# Altium schematic symbol library Microcontrollers.SchLib: 8 symbols
Pins are listed as number, name and electrical type; pins without a type are passive.

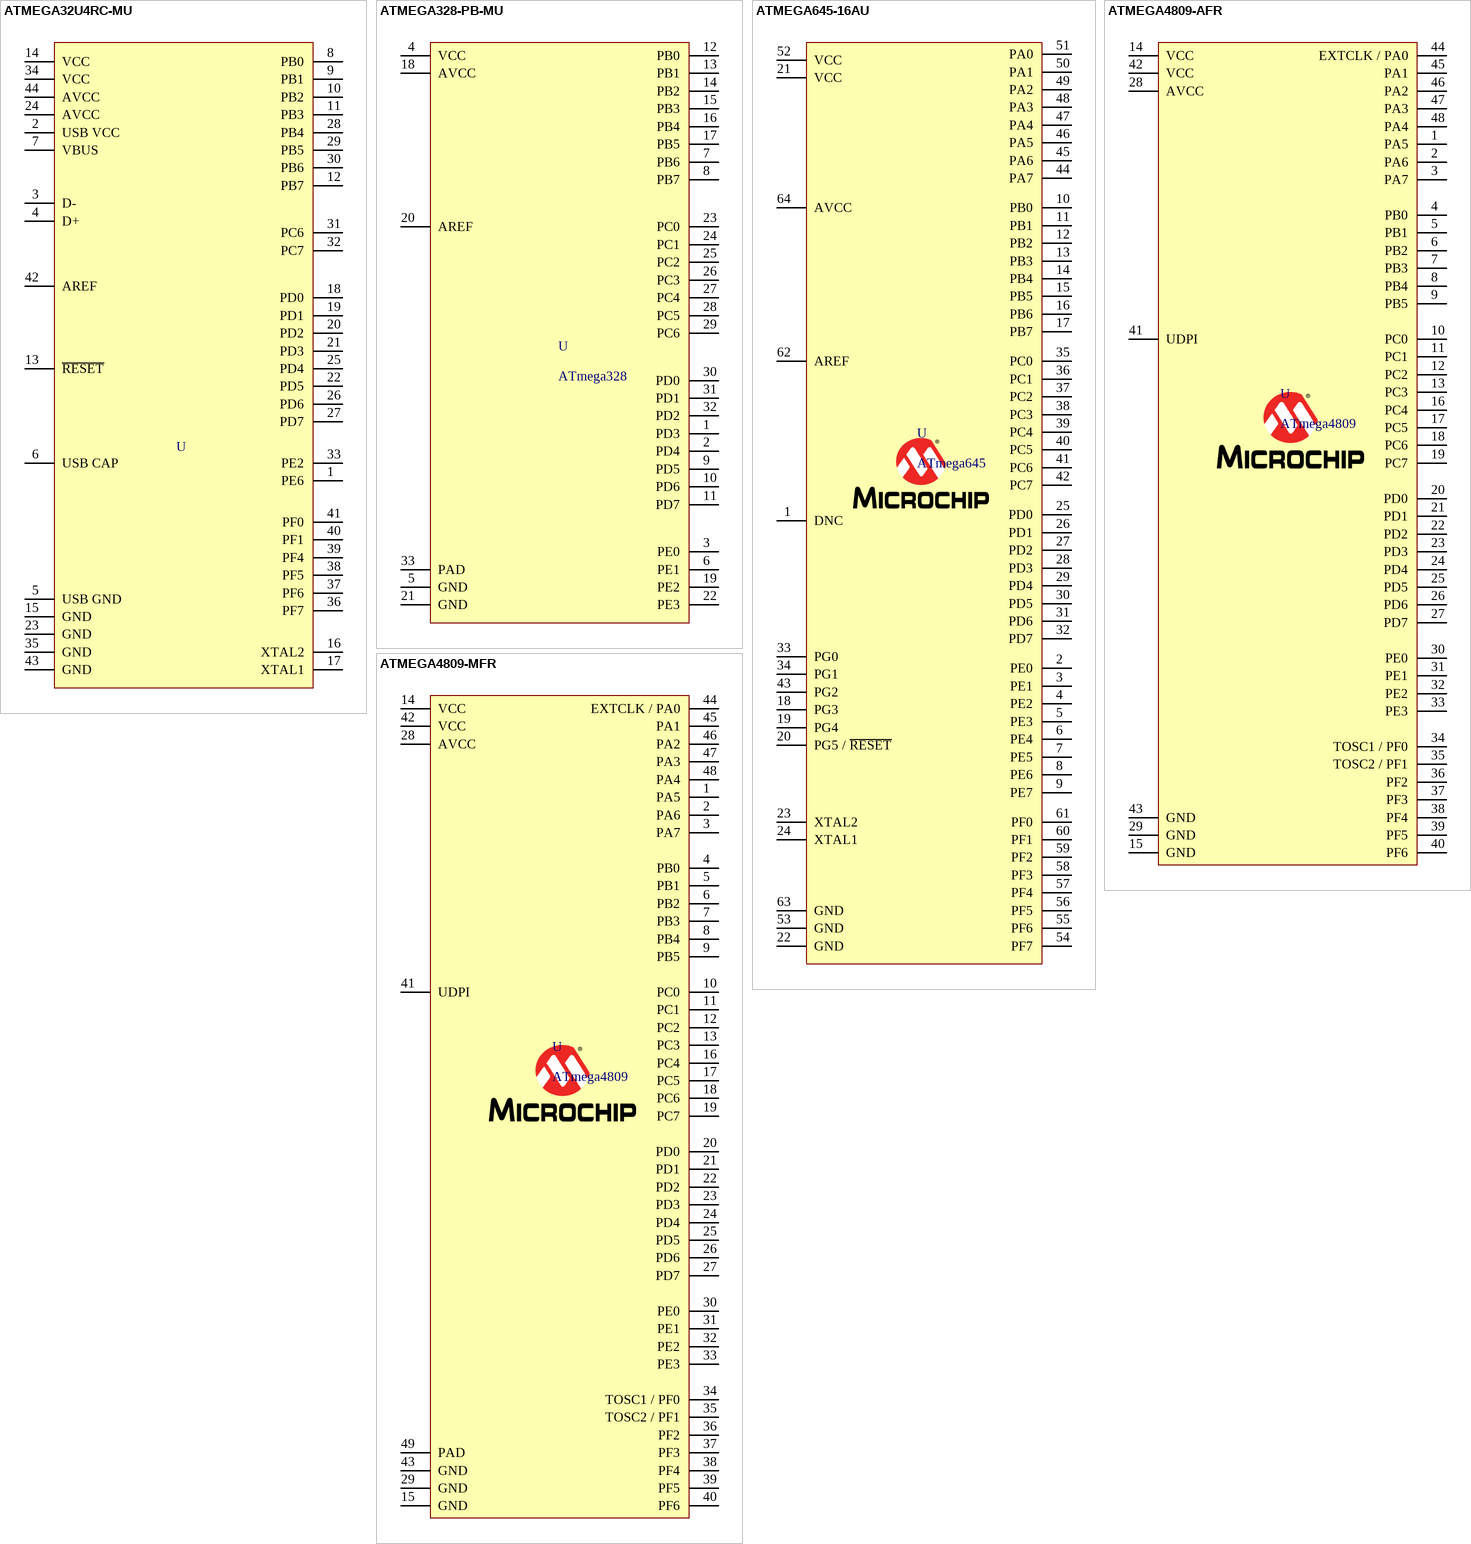
[diagram p0: symbols ATMEGA32U4RC-MU to ATMEGA4809-MFR]

## ATMEGA32U4RC-MU
designator U
ATmega32u4
footprint ATMEGA32U4RC-MU (QFN, 44-Leads, Body 7.00x7.00mm, Pitch 0.50mm, Thermal Pad 5.20x5.20mm, IPC Medium Density)
pins: 1 PE6, 2 USB VCC, 3 D-, 4 D+, 5 USB GND, 6 USB CAP, 7 VBUS, 8 PB0, 9 PB1, 10 PB2, 11 PB3, 12 PB7, 13 ~{RESET}, 14 VCC, 15 GND, 16 XTAL2, 17 XTAL1, 18 PD0, 19 PD1, 20 PD2, 21 PD3, 22 PD5, 23 GND, 24 AVCC, 25 PD4, 26 PD6, 27 PD7, 28 PB4, 29 PB5, 30 PB6, 31 PC6, 32 PC7, 33 PE2, 34 VCC, 35 GND, 36 PF7, 37 PF6, 38 PF5, 39 PF4, 40 PF1, 41 PF0, 42 AREF, 43 GND, 44 AVCC

## ATMEGA328-PB-MU
designator U, comment ATmega328
ATmega328, 2 UART
footprint ATMEGA328-PB-AU (QFN, 32-Leads, Body 5.00x5.00mm, Pitch 0.50mm, Thermal Pad 3.10x3.10mm, IPC Medium Density)
pins: 1 PD3, 2 PD4, 3 PE0, 4 VCC, 5 GND, 6 PE1, 7 PB6, 8 PB7, 9 PD5, 10 PD6, 11 PD7, 12 PB0, 13 PB1, 14 PB2, 15 PB3, 16 PB4, 17 PB5, 18 AVCC, 19 PE2, 20 AREF, 21 GND, 22 PE3, 23 PC0, 24 PC1, 25 PC2, 26 PC3, 27 PC4, 28 PC5, 29 PC6, 30 PD0, 31 PD1, 32 PD2, 33 PAD

## ATMEGA645-16AU
designator U, comment ATmega645
footprint ATmega645 (TQFP, 64-Leads, Body 14.00x14.00mm, Pitch 0.80mm, IPC Medium Density)
pins: 1 DNC, 2 PE0, 3 PE1, 4 PE2, 5 PE3, 6 PE4, 7 PE5, 8 PE6, 9 PE7, 10 PB0, 11 PB1, 12 PB2, 13 PB3, 14 PB4, 15 PB5, 16 PB6, 17 PB7, 18 PG3, 19 PG4, 20 PG5 / ~{RESET}, 21 VCC, 22 GND, 23 XTAL2, 24 XTAL1, 25 PD0, 26 PD1, 27 PD2, 28 PD3, 29 PD4, 30 PD5, 31 PD6, 32 PD7, 33 PG0, 34 PG1, 35 PC0, 36 PC1, 37 PC2, 38 PC3, 39 PC4, 40 PC5, 41 PC6, 42 PC7, 43 PG2, 44 PA7, 45 PA6, 46 PA5, 47 PA4, 48 PA3, 49 PA2, 50 PA1, 51 PA0, 52 VCC, 53 GND, 54 PF7, 55 PF6, 56 PF5, 57 PF4, 58 PF3, 59 PF2, 60 PF1, 61 PF0, 62 AREF, 63 GND, 64 AVCC

## ATMEGA4809-AFR
designator U, comment ATmega4809
ATmega4809 48-pin TQFP
footprint ATMEGA4809-AFR (TSQFP, 48-Leads, Body 7,00x7,00mm, Pitch 0,50mm, IPC Medium Density)
pins: 1 PA5, 2 PA6, 3 PA7, 4 PB0, 5 PB1, 6 PB2, 7 PB3, 8 PB4, 9 PB5, 10 PC0, 11 PC1, 12 PC2, 13 PC3, 14 VCC, 15 GND, 16 PC4, 17 PC5, 18 PC6, 19 PC7, 20 PD0, 21 PD1, 22 PD2, 23 PD3, 24 PD4, 25 PD5, 26 PD6, 27 PD7, 28 AVCC, 29 GND, 30 PE0, 31 PE1, 32 PE2, 33 PE3, 34 TOSC1 / PF0, 35 TOSC2 / PF1, 36 PF2, 37 PF3, 38 PF4, 39 PF5, 40 PF6, 41 UDPI, 42 VCC, 43 GND, 44 EXTCLK / PA0, 45 PA1, 46 PA2, 47 PA3, 48 PA4

## ATMEGA4809-MFR
designator U, comment ATmega4809
ATmega4809 48-pin UQFN
footprint ATMEGA4809-MFR (QFN, 48-Leads, Body 6.00x6.00mm, Pitch 0.40mm, Thermal Pad 4.60x4.60mm, IPC Medium Density)
pins: 1 PA5, 2 PA6, 3 PA7, 4 PB0, 5 PB1, 6 PB2, 7 PB3, 8 PB4, 9 PB5, 10 PC0, 11 PC1, 12 PC2, 13 PC3, 14 VCC, 15 GND, 16 PC4, 17 PC5, 18 PC6, 19 PC7, 20 PD0, 21 PD1, 22 PD2, 23 PD3, 24 PD4, 25 PD5, 26 PD6, 27 PD7, 28 AVCC, 29 GND, 30 PE0, 31 PE1, 32 PE2, 33 PE3, 34 TOSC1 / PF0, 35 TOSC2 / PF1, 36 PF2, 37 PF3, 38 PF4, 39 PF5, 40 PF6, 41 UDPI, 42 VCC, 43 GND, 44 EXTCLK / PA0, 45 PA1, 46 PA2, 47 PA3, 48 PA4, 49 PAD

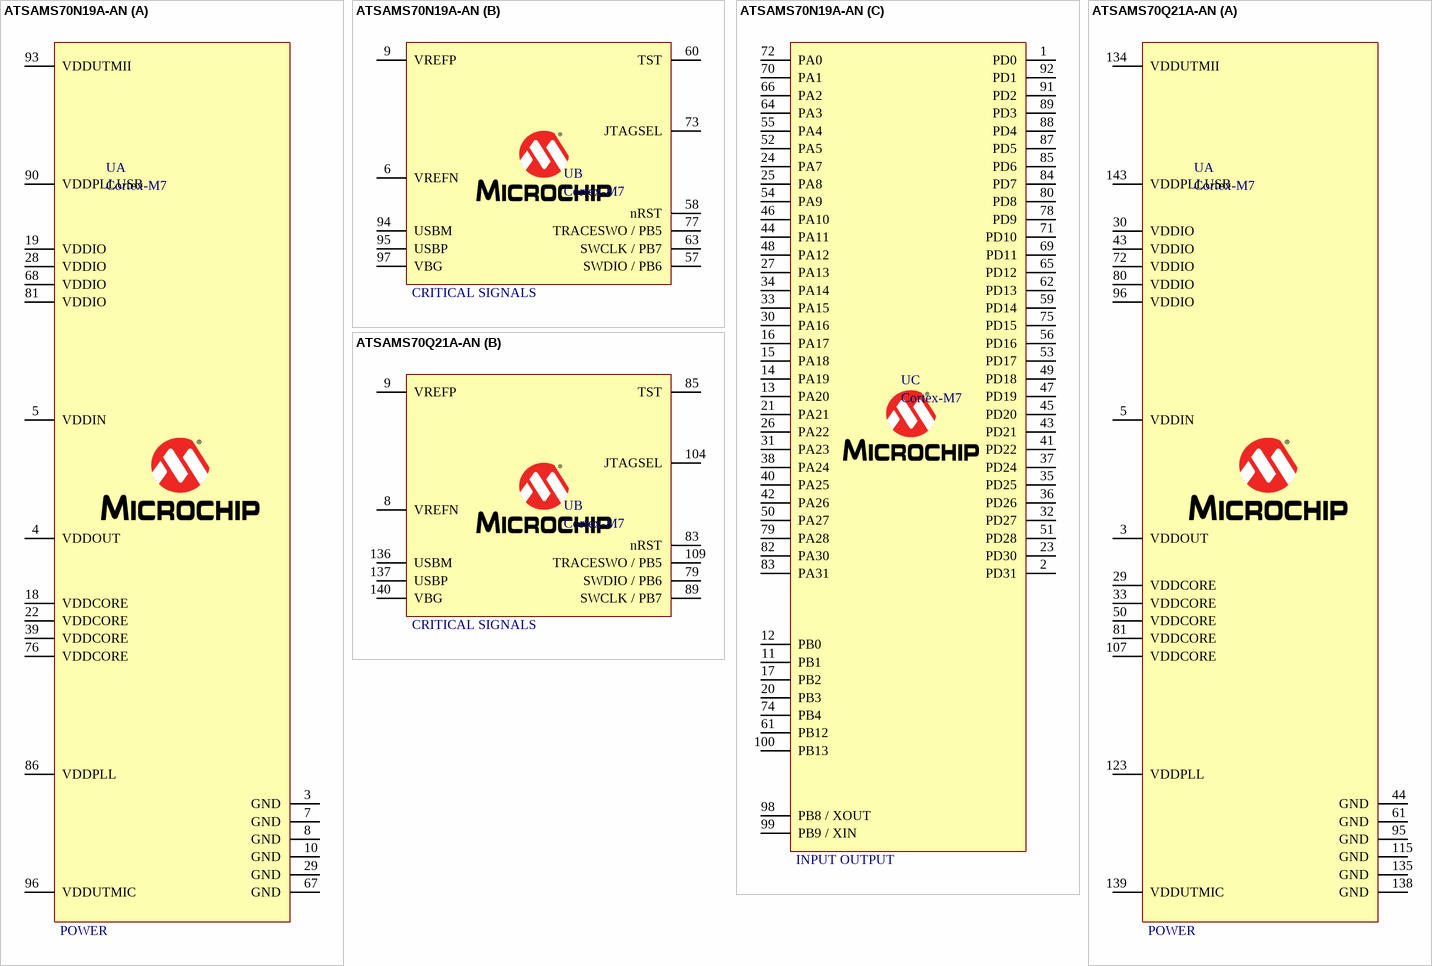
[diagram p1: symbols ATSAMS70N19A-AN to ATSAMS70Q21A-AN]

## ATSAMS70N19A-AN
designator U, comment Cortex-M7
ATSAMS70N19
footprint ATSAMS70N19A-AN (TSQFP, 100-Leads, Body 14,00x14,00mm, Pitch 0,50mm, IPC Medium Density)
part A pins: 3 GND, 4 VDDOUT, 5 VDDIN, 7 GND, 8 GND, 10 GND, 18 VDDCORE, 19 VDDIO, 22 VDDCORE, 28 VDDIO, 29 GND, 39 VDDCORE, 67 GND, 68 VDDIO, 76 VDDCORE, 81 VDDIO, 86 VDDPLL, 90 VDDPLLUSB, 93 VDDUTMII, 96 VDDUTMIC
part B pins: 6 VREFN, 9 VREFP, 57 SWDIO / PB6, 58 nRST, 60 TST, 63 SWCLK / PB7, 73 JTAGSEL, 77 TRACESWO / PB5, 94 USBM, 95 USBP, 97 VBG
part C pins: 1 PD0, 2 PD31, 11 PB1, 12 PB0, 13 PA20, 14 PA19, 15 PA18, 16 PA17, 17 PB2, 20 PB3, 21 PA21, 23 PD30, 24 PA7, 25 PA8, 26 PA22, 27 PA13, 30 PA16, 31 PA23, 32 PD27, 33 PA15, 34 PA14, 35 PD25, 36 PD26, 37 PD24, 38 PA24, 40 PA25, 41 PD22, 42 PA26, 43 PD21, 44 PA11, 45 PD20, 46 PA10, 47 PD19, 48 PA12, 49 PD18, 50 PA27, 51 PD28, 52 PA5, 53 PD17, 54 PA9, 55 PA4, 56 PD16, 59 PD14, 61 PB12, 62 PD13, 64 PA3, 65 PD12, 66 PA2, 69 PD11, 70 PA1, 71 PD10, 72 PA0, 74 PB4, 75 PD15, 78 PD9, 79 PA28, 80 PD8, 82 PA30, 83 PA31, 84 PD7, 85 PD6, 87 PD5, 88 PD4, 89 PD3, 91 PD2, 92 PD1, 98 PB8 / XOUT, 99 PB9 / XIN, 100 PB13
part A text: POWER
part B text: CRITICAL SIGNALS
part C text: INPUT OUTPUT

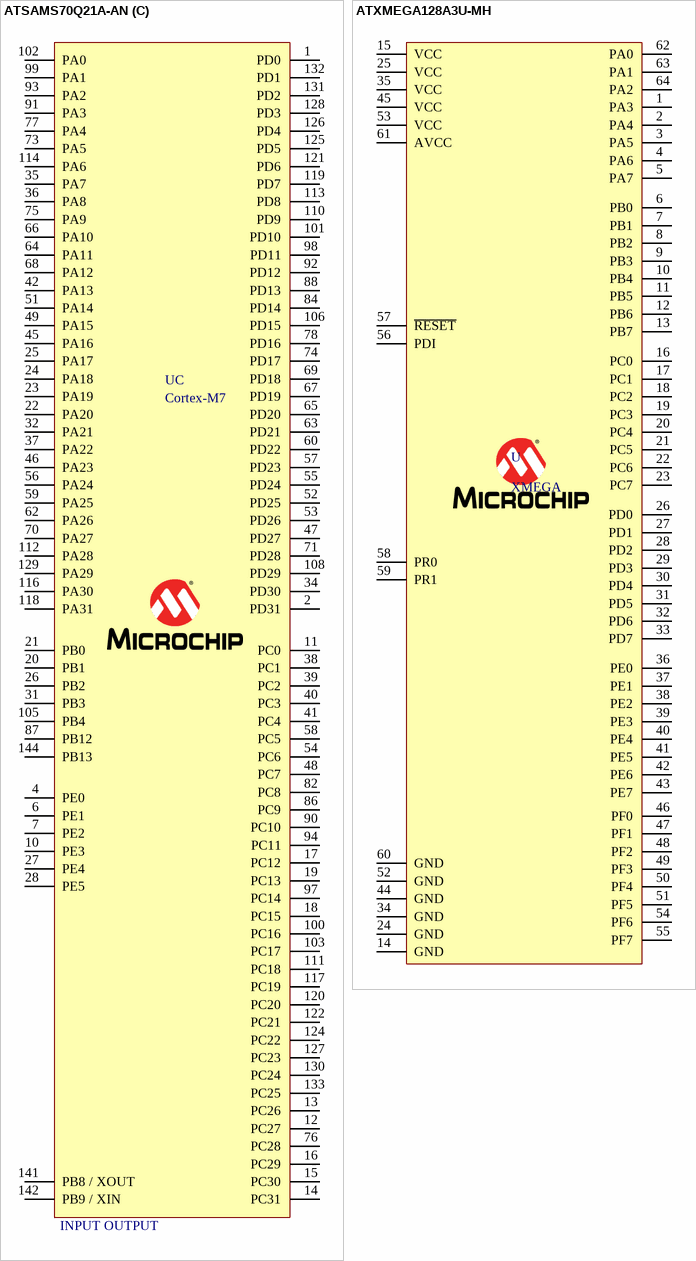
[diagram p2: symbols ATSAMS70Q21A-AN to ATXMEGA128A3U-MH]

## ATSAMS70Q21A-AN
designator U, comment Cortex-M7
ATSAMS70Q21
footprint ATSAMS70Q21A-AN (TSQFP, 144-Leads, Body 20,00x20,00mm, Pitch 0,50mm, IPC Medium Density)
part A pins: 3 VDDOUT, 5 VDDIN, 29 VDDCORE, 30 VDDIO, 33 VDDCORE, 43 VDDIO, 44 GND, 50 VDDCORE, 61 GND, 72 VDDIO, 80 VDDIO, 81 VDDCORE, 95 GND, 96 VDDIO, 107 VDDCORE, 115 GND, 123 VDDPLL, 134 VDDUTMII, 135 GND, 138 GND, 139 VDDUTMIC, 143 VDDPLLUSB
part B pins: 8 VREFN, 9 VREFP, 79 SWDIO / PB6, 83 nRST, 85 TST, 89 SWCLK / PB7, 104 JTAGSEL, 109 TRACESWO / PB5, 136 USBM, 137 USBP, 140 VBG
part C pins: 1 PD0, 2 PD31, 4 PE0, 6 PE1, 7 PE2, 10 PE3, 11 PC0, 12 PC27, 13 PC26, 14 PC31, 15 PC30, 16 PC29, 17 PC12, 18 PC15, 19 PC13, 20 PB1, 21 PB0, 22 PA20, 23 PA19, 24 PA18, 25 PA17, 26 PB2, 27 PE4, 28 PE5, 31 PB3, 32 PA21, 34 PD30, 35 PA7, 36 PA8, 37 PA22, 38 PC1, 39 PC2, 40 PC3, 41 PC4, 42 PA13, 45 PA16, 46 PA23, 47 PD27, 48 PC7, 49 PA15, 51 PA14, 52 PD25, 53 PD26, 54 PC6, 55 PD24, 56 PA24, 57 PD23, 58 PC5, 59 PA25, 60 PD22, 62 PA26, 63 PD21, 64 PA11, 65 PD20, 66 PA10, 67 PD19, 68 PA12, 69 PD18, 70 PA27, 71 PD28, 73 PA5, 74 PD17, 75 PA9, 76 PC28, 77 PA4, 78 PD16, 82 PC8, 84 PD14, 86 PC9, 87 PB12, 88 PD13, 90 PC10, 91 PA3, 92 PD12, 93 PA2, 94 PC11, 97 PC14, 98 PD11, 99 PA1, 100 PC16, 101 PD10, 102 PA0, 103 PC17, 105 PB4, 106 PD15, 108 PD29, 110 PD9, 111 PC18, 112 PA28, 113 PD8, 114 PA6, 116 PA30, 117 PC19, 118 PA31, 119 PD7, 120 PC20, 121 PD6, 122 PC21, 124 PC22, 125 PD5, 126 PD4, 127 PC23, 128 PD3, 129 PA29, 130 PC24, 131 PD2, 132 PD1, 133 PC25, 141 PB8 / XOUT, 142 PB9 / XIN, 144 PB13
part A text: POWER
part B text: CRITICAL SIGNALS
part C text: INPUT OUTPUT

## ATXMEGA128A3U-MH
designator U, comment XMEGA
ATXmega128A3U
footprint ATXmega128A3U (QFN, 64-Leads, Body 9.00x9.00mm, Pitch 0.50mm, Thermal Pad 7.65x7.65mm, IPC Low Density)
pins: 1 PA3, 2 PA4, 3 PA5, 4 PA6, 5 PA7, 6 PB0, 7 PB1, 8 PB2, 9 PB3, 10 PB4, 11 PB5, 12 PB6, 13 PB7, 14 GND, 15 VCC, 16 PC0, 17 PC1, 18 PC2, 19 PC3, 20 PC4, 21 PC5, 22 PC6, 23 PC7, 24 GND, 25 VCC, 26 PD0, 27 PD1, 28 PD2, 29 PD3, 30 PD4, 31 PD5, 32 PD6, 33 PD7, 34 GND, 35 VCC, 36 PE0, 37 PE1, 38 PE2, 39 PE3, 40 PE4, 41 PE5, 42 PE6, 43 PE7, 44 GND, 45 VCC, 46 PF0, 47 PF1, 48 PF2, 49 PF3, 50 PF4, 51 PF5, 52 GND, 53 VCC, 54 PF6, 55 PF7, 56 PDI, 57 ~{RESET}, 58 PR0, 59 PR1, 60 GND, 61 AVCC, 62 PA0, 63 PA1, 64 PA2